# Altium schematic symbol library TVS_824014.SchLib: 1 symbol
Pins are listed as number, name and electrical type; pins without a type are passive.

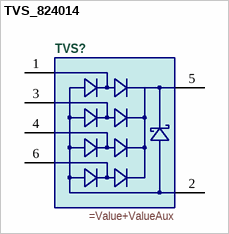
[diagram p0: symbol TVS_824014]

## TVS_824014
designator TVS?
=Description
pins: 1, 2, 3, 4, 5, 6